# Altium footprint library NX1001-08SMR.PcbLib: 1 footprints
Each footprint in its own frame and in the unit in brackets; x right, y up, seen from the top. Pads: shape width x height; smd on the part's side, far side on the other; paste and mask are expansions set on the pad; w line width, h text height; cw(c..) or ccw(c..) is an arc to the next point about the centre after c.
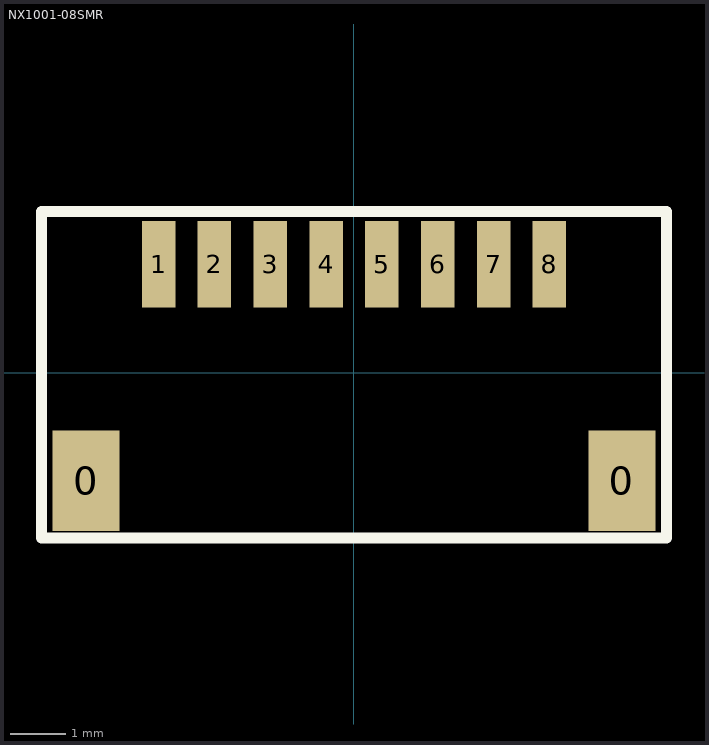
[diagram p0: the footprint, top view; thin cyan lines are the x and y axes]

## NX1001-08SMR [mm] "NX1001-05SMR"
pads (10):
  rect 1.2x1.8 smd mask+0.015: 0(-4.8,-1.937) 0(4.8,-1.937)
  rect 0.6x1.55 smd mask+0.015: 1(-3.5,1.938) 2(-2.5,1.938) 3(-1.5,1.938) 4(-0.5,1.938) 5(0.5,1.938) 6(1.5,1.938) 7(2.5,1.938) 8(3.5,1.938)
Top Overlay:
  lines w0.2: -5.6,-2.962 5.6,-2.962 5.6,2.888 -5.6,2.888 -5.6,-2.962
Top Assembly:
  lines w0.1: -5.6,-2.962 5.6,-2.962 5.6,2.913 -5.6,2.913 -5.6,-2.962
  text "'.Designator'" at -3.5,-0.175 h0.7
3D body "NX1001-08SMR.stp": height 2.9, standoff 0, extent -5,-2.825 5,2.125